# Altium footprint library libreriaPcb.PcbLib: 683 footprints (part 28 of 44)
Each footprint in its own frame and in the unit in brackets; x right, y up, seen from the top. Pads: shape width x height; smd on the part's side, far side on the other; paste and mask are expansions set on the pad; w line width, h text height; cw(c..) or ccw(c..) is an arc to the next point about the centre after c.
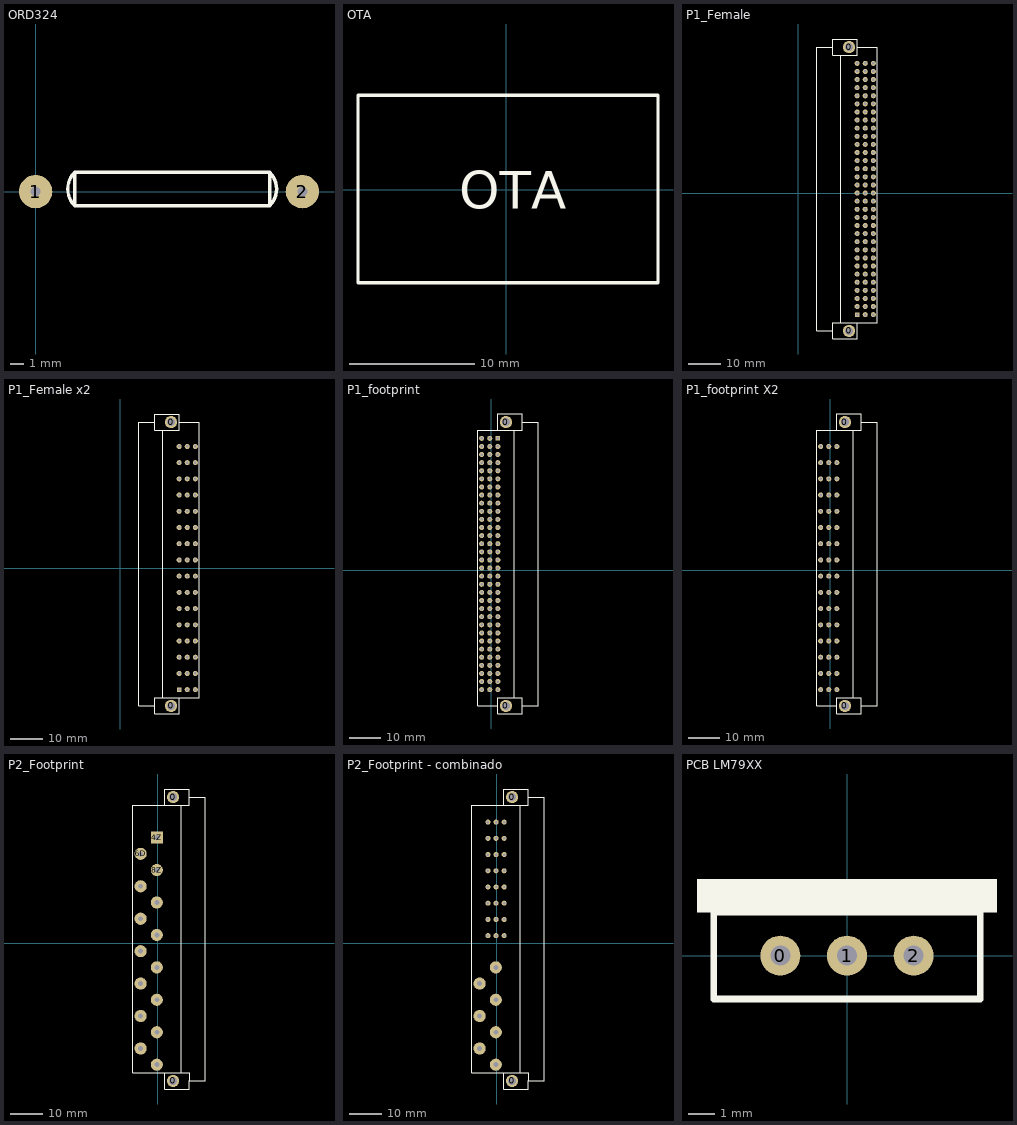
[diagram p27: the footprints below, top view; thin cyan lines are the x and y axes]

## ORD324 [mm] "Reed  Switch"
pads (2):
  round 2.5 hole 0.75: 1(0,0) 2(20,0)
Top Overlay:
  lines w0.254: 2.925,-1.05 cw(c4.175,0.2) 2.925,1.45 ; 2.925,-1.05 17.55,-1.05 ; 2.925,-1.05 2.925,1.45 ; 2.925,1.45 17.55,1.45 ; 17.55,-1.05 ccw(c16.3,0.2) 17.55,1.45 ; 17.55,-1.05 17.55,1.45

## OTA [mm]
Top Overlay:
  lines w0.254: -11.875,-7.45 -11.875,7.55 12.125,7.55 12.125,-7.45 -11.875,-7.45
  text "OTA" at -3.775,-1.55 h3

## P1_Female [mil]
pads (98):
  round 150 hole 100: 0(628.99,-1699.02) 0(628.99,1800.98)
  round 62 hole 30: 1A(728.99,1600.98) 1B(828.99,1600.98) 1C(928.99,1600.98) 2A(728.99,1500.98) 2B(828.99,1500.98) 2C(928.99,1500.98) 3A(728.99,1400.98) 3B(828.99,1400.98) 3C(928.99,1400.98) 4A(728.99,1300.98) 4B(828.99,1300.98) 4C(928.99,1300.98) 5A(728.99,1200.98) 5B(828.99,1200.98) 5C(928.99,1200.98) 6A(728.99,1100.98) 6B(828.99,1100.98) 6C(928.99,1100.98) 7A(728.99,1000.98) 7B(828.99,1000.98) 7C(928.99,1000.98) 8A(728.99,900.98) 8B(828.99,900.98) 8C(928.99,900.98) 9A(728.99,800.98) 9B(828.99,800.98) 9C(928.99,800.98) 10A(728.99,700.98) 10B(828.99,700.98) 10C(928.99,700.98) 11A(728.99,600.98) 11B(828.99,600.98) 11C(928.99,600.98) 12A(728.99,500.98) 12B(828.99,500.98) 12C(928.99,500.98) 13A(728.99,400.98) 13B(828.99,400.98) 13C(928.99,400.98) 14A(728.99,300.98) 14B(828.99,300.98) 14C(928.99,300.98) 15A(728.99,200.98) 15B(828.99,200.98) 15C(928.99,200.98) 16A(728.99,100.98) 16B(828.99,100.98) 16C(928.99,100.98) 17A(728.99,0.98) 17B(828.99,0.98) 17C(928.99,0.98) 18A(728.99,-99.02) 18B(828.99,-99.02) 18C(928.99,-99.02) 19A(728.99,-199.02) 19B(828.99,-199.02) 19C(928.99,-199.02) 20A(728.99,-299.02) 20B(828.99,-299.02) 20C(928.99,-299.02) 21A(728.99,-399.02) 21B(828.99,-399.02) 21C(928.99,-399.02) 22A(728.99,-499.02) 22B(828.99,-499.02) 22C(928.99,-499.02) 23A(728.99,-599.02) 23B(828.99,-599.02) 23C(928.99,-599.02) 24A(728.99,-699.02) 24B(828.99,-699.02) 24C(928.99,-699.02) 25A(728.99,-799.02) 25B(828.99,-799.02) 25C(928.99,-799.02) 26A(728.99,-899.02) 26B(828.99,-899.02) 26C(928.99,-899.02) 27A(728.99,-999.02) 27B(828.99,-999.02) 27C(928.99,-999.02) 28A(728.99,-1099.02) 28B(828.99,-1099.02) 28C(928.99,-1099.02) 29A(728.99,-1199.02) 29B(828.99,-1199.02) 29C(928.99,-1199.02) 30A(728.99,-1299.02) 30B(828.99,-1299.02) 30C(928.99,-1299.02) 31A(728.99,-1399.02) 31B(828.99,-1399.02) 31C(928.99,-1399.02) 32B(828.99,-1499.02) 32C(928.99,-1499.02)
  rect 58x58 hole 30: 32A(728.99,-1499.02)
Top Overlay:
  lines w10: 528.99,-1599.02 528.99,1700.98 ; 728.99,1800.98 978.99,1800.98 978.99,-1599.02 728.99,-1599.02 ; 428.99,-1699.02 228.99,-1699.02 228.99,1800.98 428.99,1800.98 ; 428.99,-1699.02 428.99,-1799.02 728.99,-1799.02 728.99,-1599.02 ; 428.99,-1699.02 428.99,-1599.02 728.99,-1599.02 ; 428.99,1800.98 428.99,1700.98 728.99,1700.98 728.99,1900.98 428.99,1900.98 428.99,1800.98
3D body: height 393.7, standoff 7.87, extent 604.39,-1630.12 643.76,1725.2
3D body: height 393.7, standoff 7.87, extent 228.4,-1699.02 560.09,-1659.65
3D body: height 393.7, standoff 7.87, extent 230.37,1760.63 560.09,1800
3D body: height 433.07, standoff 393.7, extent 230.37,-1699.02 643.76,1800
3D body: height 39.37, standoff 7.87, extent 230.37,-1699.02 643.76,1800
3D body: height 393.7, standoff 7.87, extent 559.11,1711.42 604.39,1760.63
3D body: height 393.7, standoff 7.87, extent 555.17,-1659.65 604.39,-1615.35
3D body: height 334.49, standoff 295.28, extent 259.7,1581.33 928.99,1620.62
3D body: height 334.49, standoff 295.28, extent 259.69,1481.33 928.99,1520.62
3D body: height 334.49, standoff 295.28, extent 259.69,1381.33 928.99,1420.62
3D body: height 334.49, standoff 295.28, extent 259.69,1281.33 928.99,1320.62
3D body: height 334.49, standoff 295.28, extent 259.69,1181.33 928.99,1220.62
3D body: height 334.49, standoff 295.28, extent 259.69,1081.33 928.99,1120.62
3D body: height 334.49, standoff 295.28, extent 259.69,981.33 928.99,1020.62
3D body: height 334.49, standoff 295.28, extent 259.69,881.33 928.99,920.62
3D body: height 334.49, standoff 295.28, extent 259.69,781.33 928.99,820.62
3D body: height 334.49, standoff 295.28, extent 259.69,681.33 928.99,720.62
3D body: height 334.49, standoff 295.28, extent 259.69,581.33 928.99,620.62
3D body: height 334.49, standoff 295.28, extent 259.69,481.33 928.99,520.62
3D body: height 334.49, standoff 295.28, extent 259.69,381.33 928.99,420.62
3D body: height 334.49, standoff 295.28, extent 259.69,281.33 928.99,320.62
3D body: height 334.49, standoff 295.28, extent 259.69,181.33 928.99,220.62
3D body: height 334.49, standoff 295.28, extent 259.69,81.33 928.99,120.62
3D body: height 334.49, standoff 295.28, extent 259.69,-18.67 928.99,20.62
3D body: height 334.49, standoff 295.28, extent 259.69,-118.67 928.99,-79.38
3D body: height 334.49, standoff 295.28, extent 259.69,-218.67 928.99,-179.38
3D body: height 334.49, standoff 295.28, extent 259.69,-318.67 928.99,-279.38
3D body: height 334.49, standoff 295.28, extent 259.69,-418.67 928.99,-379.38
3D body: height 334.49, standoff 295.28, extent 259.69,-518.67 928.99,-479.38
3D body: height 334.49, standoff 295.28, extent 259.69,-618.67 928.99,-579.38
3D body: height 334.49, standoff 295.28, extent 259.69,-718.67 928.99,-679.38
3D body: height 334.49, standoff 295.28, extent 259.69,-818.67 928.99,-779.38
3D body: height 334.49, standoff 295.28, extent 259.69,-918.67 928.99,-879.38
3D body: height 334.49, standoff 295.28, extent 259.69,-1018.67 928.99,-979.38
3D body: height 334.49, standoff 295.28, extent 259.69,-1118.67 928.99,-1079.38
3D body: height 334.49, standoff 295.28, extent 259.69,-1218.67 928.99,-1179.38
3D body: height 334.49, standoff 295.28, extent 259.69,-1318.67 928.99,-1279.38
3D body: height 334.49, standoff 295.28, extent 259.69,-1418.67 928.99,-1379.38
3D body: height 334.49, standoff 295.28, extent 259.69,-1518.67 928.99,-1479.38
3D body: height 177.01, standoff 137.8, extent 256.55,-1518.66 728.99,-1479.37
3D body: height 177.01, standoff 137.8, extent 256.55,-1418.66 728.99,-1379.37
3D body: height 177.01, standoff 137.8, extent 256.55,-1318.66 728.99,-1279.37
3D body: height 177.01, standoff 137.8, extent 256.55,-1218.66 728.99,-1179.37
3D body: height 177.01, standoff 137.8, extent 256.55,-1118.66 728.99,-1079.37
3D body: height 177.01, standoff 137.8, extent 256.55,-1018.66 728.99,-979.37
3D body: height 177.01, standoff 137.8, extent 256.55,-918.66 728.99,-879.37
3D body: height 177.01, standoff 137.8, extent 256.55,-818.66 728.99,-779.37
3D body: height 177.01, standoff 137.8, extent 256.55,-718.66 728.99,-679.37
3D body: height 177.01, standoff 137.8, extent 256.55,-618.66 728.99,-579.37
3D body: height 177.01, standoff 137.8, extent 256.55,-518.66 728.99,-479.37
3D body: height 177.01, standoff 137.8, extent 256.55,-418.66 728.99,-379.37
3D body: height 177.01, standoff 137.8, extent 256.55,-318.66 728.99,-279.37
3D body: height 177.01, standoff 137.8, extent 256.55,-218.66 728.99,-179.37
3D body: height 177.01, standoff 137.8, extent 256.55,-118.66 728.99,-79.37
3D body: height 177.01, standoff 137.8, extent 256.55,-18.66 728.99,20.63
3D body: height 177.01, standoff 137.8, extent 256.55,81.34 728.99,120.63
3D body: height 177.01, standoff 137.8, extent 256.55,181.34 728.99,220.63
3D body: height 177.01, standoff 137.8, extent 256.55,281.34 728.99,320.63
3D body: height 177.01, standoff 137.8, extent 256.55,381.34 728.99,420.63
3D body: height 177.01, standoff 137.8, extent 256.55,481.34 728.99,520.63
3D body: height 177.01, standoff 137.8, extent 256.55,581.34 728.99,620.63
3D body: height 177.01, standoff 137.8, extent 256.55,681.34 728.99,720.63
3D body: height 177.01, standoff 137.8, extent 256.55,781.34 728.99,820.63
3D body: height 177.01, standoff 137.8, extent 256.55,881.34 728.99,920.63
3D body: height 177.01, standoff 137.8, extent 256.55,981.34 728.99,1020.63
3D body: height 177.01, standoff 137.8, extent 256.55,1081.34 728.99,1120.63
3D body: height 177.01, standoff 137.8, extent 256.55,1181.34 728.99,1220.63
3D body: height 177.01, standoff 137.8, extent 256.55,1281.34 728.99,1320.63
3D body: height 177.01, standoff 137.8, extent 256.55,1381.34 728.99,1420.63
3D body: height 177.01, standoff 137.8, extent 256.55,1481.34 728.99,1520.63
3D body: height 177.01, standoff 137.8, extent 256.55,1581.34 728.99,1620.63
3D body: height 177.17, standoff -39.37, extent 709.3,1581.33 748.51,1620.62
3D body: height 177.17, standoff -39.37, extent 709.29,1481.33 748.51,1520.62
3D body: height 177.17, standoff -39.37, extent 709.29,1381.33 748.51,1420.62
3D body: height 177.17, standoff -39.37, extent 709.29,1281.33 748.51,1320.62
3D body: height 177.17, standoff -39.37, extent 709.3,1181.33 748.51,1220.62
3D body: height 177.17, standoff -39.37, extent 709.3,1081.33 748.51,1120.62
3D body: height 177.17, standoff -39.37, extent 709.3,981.33 748.51,1020.62
3D body: height 177.17, standoff -39.37, extent 709.3,881.33 748.51,920.62
3D body: height 177.17, standoff -39.37, extent 709.29,781.33 748.51,820.62
3D body: height 177.17, standoff -39.37, extent 709.29,681.33 748.51,720.62
3D body: height 177.17, standoff -39.37, extent 709.29,581.33 748.51,620.62
3D body: height 177.17, standoff -39.37, extent 709.29,481.33 748.51,520.62
3D body: height 177.17, standoff -39.37, extent 709.3,381.33 748.51,420.62
3D body: height 177.17, standoff -39.37, extent 709.3,281.33 748.51,320.62
3D body: height 177.17, standoff -39.37, extent 709.29,181.33 748.51,220.62
3D body: height 177.17, standoff -39.37, extent 709.29,81.33 748.51,120.62
3D body: height 177.17, standoff -39.37, extent 709.29,-18.67 748.51,20.62
3D body: height 177.17, standoff -39.37, extent 709.3,-118.67 748.51,-79.38
3D body: height 177.17, standoff -39.37, extent 709.3,-218.67 748.51,-179.38
3D body: height 177.17, standoff -39.37, extent 709.3,-318.67 748.51,-279.38
3D body: height 177.17, standoff -39.37, extent 709.29,-418.67 748.51,-379.38
3D body: height 177.17, standoff -39.37, extent 709.29,-518.67 748.51,-479.38
3D body: height 177.17, standoff -39.37, extent 709.3,-618.67 748.51,-579.38
3D body: height 177.17, standoff -39.37, extent 709.29,-718.67 748.51,-679.38
3D body: height 177.17, standoff -39.37, extent 709.3,-818.67 748.51,-779.38
3D body: height 177.17, standoff -39.37, extent 709.3,-918.67 748.51,-879.38
3D body: height 177.17, standoff -39.37, extent 709.29,-1018.67 748.51,-979.38
3D body: height 177.17, standoff -39.37, extent 709.3,-1118.67 748.51,-1079.38
3D body: height 177.17, standoff -39.37, extent 709.3,-1218.67 748.51,-1179.38
3D body: height 177.17, standoff -39.37, extent 709.29,-1318.67 748.51,-1279.38
3D body: height 177.17, standoff -39.37, extent 709.3,-1418.67 748.51,-1379.38
3D body: height 177.17, standoff -39.37, extent 709.3,-1518.67 748.51,-1479.38
3D body: height 334.65, standoff -39.37, extent 909.29,-1518.67 948.51,-1479.38
3D body: height 334.65, standoff -39.37, extent 909.29,-1418.67 948.51,-1379.38
3D body: height 334.65, standoff -39.37, extent 909.29,-1318.68 948.5,-1279.39
3D body: height 334.65, standoff -39.37, extent 909.29,-1318.67 948.51,-1279.38
3D body: height 334.65, standoff -39.37, extent 909.29,-1218.68 948.5,-1179.39
3D body: height 334.65, standoff -39.37, extent 909.29,-1118.67 948.51,-1079.38
3D body: height 334.65, standoff -39.37, extent 909.29,-1018.68 948.5,-979.39
3D body: height 334.65, standoff -39.37, extent 909.29,-918.67 948.51,-879.38
3D body: height 334.65, standoff -39.37, extent 909.29,-818.68 948.5,-779.39
3D body: height 334.65, standoff -39.37, extent 909.29,-718.68 948.5,-679.39
3D body: height 334.65, standoff -39.37, extent 909.29,-618.68 948.5,-579.39
3D body: height 334.65, standoff -39.37, extent 909.29,-518.67 948.51,-479.38
3D body: height 334.65, standoff -39.37, extent 909.29,-418.68 948.5,-379.39
3D body: height 334.65, standoff -39.37, extent 909.29,-318.67 948.51,-279.38
3D body: height 334.65, standoff -39.37, extent 909.29,-218.68 948.5,-179.39
3D body: height 334.65, standoff -39.37, extent 909.29,-118.68 948.5,-79.39
3D body: height 334.65, standoff -39.37, extent 909.29,-18.68 948.5,20.61
3D body: height 334.65, standoff -39.37, extent 909.29,81.33 948.51,120.62
3D body: height 334.65, standoff -39.37, extent 909.29,181.33 948.51,220.62
3D body: height 334.65, standoff -39.37, extent 909.29,281.33 948.51,320.62
3D body: height 334.65, standoff -39.37, extent 909.29,381.33 948.51,420.62
3D body: height 334.65, standoff -39.37, extent 909.29,481.32 948.5,520.61
3D body: height 334.65, standoff -39.37, extent 909.29,581.33 948.51,620.62
3D body: height 334.65, standoff -39.37, extent 909.29,681.33 948.51,720.62
3D body: height 334.65, standoff -39.37, extent 909.29,781.33 948.51,820.62
3D body: height 334.65, standoff -39.37, extent 909.29,881.33 948.51,920.62
3D body: height 334.65, standoff -39.37, extent 909.29,981.33 948.51,1020.62
3D body: height 334.65, standoff -39.37, extent 909.29,1081.33 948.51,1120.62
3D body: height 334.65, standoff -39.37, extent 909.29,1181.32 948.5,1220.61
3D body: height 334.65, standoff -39.37, extent 909.29,1281.33 948.51,1320.62
3D body: height 334.65, standoff -39.37, extent 909.29,1381.33 948.51,1420.62
3D body: height 334.65, standoff -39.37, extent 909.29,1481.33 948.51,1520.62
3D body: height 334.65, standoff -39.37, extent 909.3,1581.33 948.51,1620.62

## P1_Female x2 [mil]
pads (50):
  round 150 hole 100: 0(628.99,-1699.02) 0(628.99,1800.98)
  round 62 hole 30: 2A(728.99,1500.98) 2B(828.99,1500.98) 2C(928.99,1500.98) 4A(728.99,1300.98) 4B(828.99,1300.98) 4C(928.99,1300.98) 6A(728.99,1100.98) 6B(828.99,1100.98) 6C(928.99,1100.98) 8A(728.99,900.98) 8B(828.99,900.98) 8C(928.99,900.98) 10A(728.99,700.98) 10B(828.99,700.98) 10C(928.99,700.98) 12A(728.99,500.98) 12B(828.99,500.98) 12C(928.99,500.98) 14A(728.99,300.98) 14B(828.99,300.98) 14C(928.99,300.98) 16A(728.99,100.98) 16B(828.99,100.98) 16C(928.99,100.98) 18A(728.99,-99.02) 18B(828.99,-99.02) 18C(928.99,-99.02) 20A(728.99,-299.02) 20B(828.99,-299.02) 20C(928.99,-299.02) 22A(728.99,-499.02) 22B(828.99,-499.02) 22C(928.99,-499.02) 24A(728.99,-699.02) 24B(828.99,-699.02) 24C(928.99,-699.02) 26A(728.99,-899.02) 26B(828.99,-899.02) 26C(928.99,-899.02) 28A(728.99,-1099.02) 28B(828.99,-1099.02) 28C(928.99,-1099.02) 30A(728.99,-1299.02) 30B(828.99,-1299.02) 30C(928.99,-1299.02) 32B(828.99,-1499.02) 32C(928.99,-1499.02)
  rect 58x58 hole 30: 32A(728.99,-1499.02)
Top Overlay:
  lines w10: 528.99,-1599.02 528.99,1700.98 ; 728.99,1800.98 978.99,1800.98 978.99,-1599.02 728.99,-1599.02 ; 428.99,-1699.02 428.99,-1599.02 728.99,-1599.02 ; 428.99,-1699.02 428.99,-1799.02 728.99,-1799.02 728.99,-1599.02 ; 428.99,-1699.02 228.99,-1699.02 228.99,1800.98 428.99,1800.98 ; 428.99,1800.98 428.99,1900.98 728.99,1900.98 728.99,1700.98 428.99,1700.98 428.99,1800.98
3D body: height 393.7, standoff 7.87, extent 555.17,-1659.65 604.39,-1615.35
3D body: height 393.7, standoff 7.87, extent 559.11,1711.42 604.39,1760.63
3D body: height 39.37, standoff 7.87, extent 230.37,-1699.02 643.76,1800
3D body: height 433.07, standoff 393.7, extent 230.37,-1699.02 643.76,1800
3D body: height 393.7, standoff 7.87, extent 230.37,1760.63 560.09,1800
3D body: height 393.7, standoff 7.87, extent 228.4,-1699.02 560.09,-1659.65
3D body: height 393.7, standoff 7.87, extent 604.39,-1630.12 643.76,1725.2
3D body: height 334.65, standoff -39.37, extent 909.29,1481.33 948.51,1520.62
3D body: height 334.65, standoff -39.37, extent 909.29,1281.33 948.51,1320.62
3D body: height 334.65, standoff -39.37, extent 909.29,1081.33 948.51,1120.62
3D body: height 334.65, standoff -39.37, extent 909.29,881.33 948.51,920.62
3D body: height 334.65, standoff -39.37, extent 909.29,681.33 948.51,720.62
3D body: height 334.65, standoff -39.37, extent 909.29,481.32 948.5,520.61
3D body: height 334.65, standoff -39.37, extent 909.29,281.33 948.51,320.62
3D body: height 334.65, standoff -39.37, extent 909.29,81.33 948.51,120.62
3D body: height 334.65, standoff -39.37, extent 909.29,-118.68 948.5,-79.39
3D body: height 334.65, standoff -39.37, extent 909.29,-318.67 948.51,-279.38
3D body: height 334.65, standoff -39.37, extent 909.29,-518.67 948.51,-479.38
3D body: height 334.65, standoff -39.37, extent 909.29,-718.68 948.5,-679.39
3D body: height 334.65, standoff -39.37, extent 909.29,-918.67 948.51,-879.38
3D body: height 334.65, standoff -39.37, extent 909.29,-1118.67 948.51,-1079.38
3D body: height 334.65, standoff -39.37, extent 909.29,-1318.67 948.51,-1279.38
3D body: height 334.65, standoff -39.37, extent 909.29,-1318.68 948.5,-1279.39
3D body: height 334.65, standoff -39.37, extent 909.29,-1518.67 948.51,-1479.38
3D body: height 177.17, standoff -39.37, extent 709.3,-1518.67 748.51,-1479.38
3D body: height 177.17, standoff -39.37, extent 709.29,-1318.67 748.51,-1279.38
3D body: height 177.17, standoff -39.37, extent 709.3,-1118.67 748.51,-1079.38
3D body: height 177.17, standoff -39.37, extent 709.3,-918.67 748.51,-879.38
3D body: height 177.17, standoff -39.37, extent 709.29,-718.67 748.51,-679.38
3D body: height 177.17, standoff -39.37, extent 709.29,-518.67 748.51,-479.38
3D body: height 177.17, standoff -39.37, extent 709.3,-318.67 748.51,-279.38
3D body: height 177.17, standoff -39.37, extent 709.3,-118.67 748.51,-79.38
3D body: height 177.17, standoff -39.37, extent 709.29,81.33 748.51,120.62
3D body: height 177.17, standoff -39.37, extent 709.3,281.33 748.51,320.62
3D body: height 177.17, standoff -39.37, extent 709.29,481.33 748.51,520.62
3D body: height 177.17, standoff -39.37, extent 709.29,681.33 748.51,720.62
3D body: height 177.17, standoff -39.37, extent 709.3,881.33 748.51,920.62
3D body: height 177.17, standoff -39.37, extent 709.3,1081.33 748.51,1120.62
3D body: height 177.17, standoff -39.37, extent 709.29,1281.33 748.51,1320.62
3D body: height 177.17, standoff -39.37, extent 709.29,1481.33 748.51,1520.62
3D body: height 177.01, standoff 137.8, extent 256.55,1481.34 728.99,1520.63
3D body: height 177.01, standoff 137.8, extent 256.55,1281.34 728.99,1320.63
3D body: height 177.01, standoff 137.8, extent 256.55,1081.34 728.99,1120.63
3D body: height 177.01, standoff 137.8, extent 256.55,881.34 728.99,920.63
3D body: height 177.01, standoff 137.8, extent 256.55,681.34 728.99,720.63
3D body: height 177.01, standoff 137.8, extent 256.55,481.34 728.99,520.63
3D body: height 177.01, standoff 137.8, extent 256.55,281.34 728.99,320.63
3D body: height 177.01, standoff 137.8, extent 256.55,81.34 728.99,120.63
3D body: height 177.01, standoff 137.8, extent 256.55,-118.66 728.99,-79.37
3D body: height 177.01, standoff 137.8, extent 256.55,-318.66 728.99,-279.37
3D body: height 177.01, standoff 137.8, extent 256.55,-518.66 728.99,-479.37
3D body: height 177.01, standoff 137.8, extent 256.55,-718.66 728.99,-679.37
3D body: height 177.01, standoff 137.8, extent 256.55,-918.66 728.99,-879.37
3D body: height 177.01, standoff 137.8, extent 256.55,-1118.66 728.99,-1079.37
3D body: height 177.01, standoff 137.8, extent 256.55,-1318.66 728.99,-1279.37
3D body: height 177.01, standoff 137.8, extent 256.55,-1518.66 728.99,-1479.37
3D body: height 334.49, standoff 295.28, extent 259.69,-1518.67 928.99,-1479.38
3D body: height 334.49, standoff 295.28, extent 259.69,-1318.67 928.99,-1279.38
3D body: height 334.49, standoff 295.28, extent 259.69,-1118.67 928.99,-1079.38
3D body: height 334.49, standoff 295.28, extent 259.69,-918.67 928.99,-879.38
3D body: height 334.49, standoff 295.28, extent 259.69,-718.67 928.99,-679.38
3D body: height 334.49, standoff 295.28, extent 259.69,-518.67 928.99,-479.38
3D body: height 334.49, standoff 295.28, extent 259.69,-318.67 928.99,-279.38
3D body: height 334.49, standoff 295.28, extent 259.69,-118.67 928.99,-79.38
3D body: height 334.49, standoff 295.28, extent 259.69,81.33 928.99,120.62
3D body: height 334.49, standoff 295.28, extent 259.69,281.33 928.99,320.62
3D body: height 334.49, standoff 295.28, extent 259.69,481.33 928.99,520.62
3D body: height 334.49, standoff 295.28, extent 259.69,681.33 928.99,720.62
3D body: height 334.49, standoff 295.28, extent 259.69,881.33 928.99,920.62
3D body: height 334.49, standoff 295.28, extent 259.69,1081.33 928.99,1120.62
3D body: height 334.49, standoff 295.28, extent 259.69,1281.33 928.99,1320.62
3D body: height 334.49, standoff 295.28, extent 259.69,1481.33 928.99,1520.62

## P1_footprint [mil]
pads (98):
  round 150 hole 100: 0(184,-1675) 0(184,1825)
  rect 58x58 hole 30: 1A(84,1625)
  round 62 hole 30: 1B(-16,1625) 1C(-116,1625) 2A(84,1525) 2B(-16,1525) 2C(-116,1525) 3A(84,1425) 3B(-16,1425) 3C(-116,1425) 4A(84,1325) 4B(-16,1325) 4C(-116,1325) 5A(84,1225) 5B(-16,1225) 5C(-116,1225) 6A(84,1125) 6B(-16,1125) 6C(-116,1125) 7A(84,1025) 7B(-16,1025) 7C(-116,1025) 8A(84,925) 8B(-16,925) 8C(-116,925) 9A(84,825) 9B(-16,825) 9C(-116,825) 10A(84,725) 10B(-16,725) 10C(-116,725) 11A(84,625) 11B(-16,625) 11C(-116,625) 12A(84,525) 12B(-16,525) 12C(-116,525) 13A(84,425) 13B(-16,425) 13C(-116,425) 14A(84,325) 14B(-16,325) 14C(-116,325) 15A(84,225) 15B(-16,225) 15C(-116,225) 16A(84,125) 16B(-16,125) 16C(-116,125) 17A(84,25) 17B(-16,25) 17C(-116,25) 18A(84,-75) 18B(-16,-75) 18C(-116,-75) 19A(84,-175) 19B(-16,-175) 19C(-116,-175) 20A(84,-275) 20B(-16,-275) 20C(-116,-275) 21A(84,-375) 21B(-16,-375) 21C(-116,-375) 22A(84,-475) 22B(-16,-475) 22C(-116,-475) 23A(84,-575) 23B(-16,-575) 23C(-116,-575) 24A(84,-675) 24B(-16,-675) 24C(-116,-675) 25A(84,-775) 25B(-16,-775) 25C(-116,-775) 26A(84,-875) 26B(-16,-875) 26C(-116,-875) 27A(84,-975) 27B(-16,-975) 27C(-116,-975) 28A(84,-1075) 28B(-16,-1075) 28C(-116,-1075) 29A(84,-1175) 29B(-16,-1175) 29C(-116,-1175) 30A(84,-1275) 30B(-16,-1275) 30C(-116,-1275) 31A(84,-1375) 31B(-16,-1375) 31C(-116,-1375) 32A(84,-1475) 32B(-16,-1475) 32C(-116,-1475)
Top Overlay:
  lines w10: 84,-1675 -166,-1675 -166,1725 84,1725 ; 284,-1575 284,1725 ; 84,1725 384,1725 384,1825 ; 84,1725 84,1925 384,1925 384,1825 ; 384,-1675 384,-1775 84,-1775 84,-1575 384,-1575 384,-1675 ; 384,-1675 584,-1675 584,1825 384,1825
3D body: height 393.7, standoff 7.87, extent 208.61,1741.34 257.82,1785.63
3D body: height 393.7, standoff 7.87, extent 208.61,-1634.65 253.88,-1585.43
3D body: height 39.37, standoff 7.87, extent 169.24,-1674.02 582.62,1825
3D body: height 433.07, standoff 393.7, extent 169.24,-1674.02 582.62,1825
3D body: height 393.7, standoff 7.87, extent 252.9,-1674.02 582.62,-1634.65
3D body: height 393.7, standoff 7.87, extent 252.9,1785.63 584.59,1825
3D body: height 393.7, standoff 7.87, extent 169.24,-1599.21 208.61,1756.1
3D body: height 334.65, standoff -39.37, extent -135.52,-1494.63 -96.3,-1455.34
3D body: height 334.65, standoff -39.37, extent -135.52,-1394.63 -96.3,-1355.34
3D body: height 334.65, standoff -39.37, extent -135.51,-1294.63 -96.3,-1255.34
3D body: height 334.65, standoff -39.37, extent -135.51,-1194.63 -96.3,-1155.34
3D body: height 334.65, standoff -39.37, extent -135.51,-1094.63 -96.3,-1055.34
3D body: height 334.65, standoff -39.37, extent -135.52,-994.63 -96.3,-955.34
3D body: height 334.65, standoff -39.37, extent -135.52,-894.63 -96.3,-855.34
3D body: height 334.65, standoff -39.37, extent -135.52,-794.63 -96.3,-755.34
3D body: height 334.65, standoff -39.37, extent -135.52,-694.63 -96.3,-655.34
3D body: height 334.65, standoff -39.37, extent -135.52,-594.63 -96.3,-555.34
3D body: height 334.65, standoff -39.37, extent -135.52,-494.63 -96.3,-455.34
3D body: height 334.65, standoff -39.37, extent -135.51,-394.63 -96.3,-355.34
3D body: height 334.65, standoff -39.37, extent -135.52,-294.63 -96.3,-255.34
3D body: height 334.65, standoff -39.37, extent -135.52,-194.63 -96.3,-155.34
3D body: height 334.65, standoff -39.37, extent -135.52,-94.63 -96.3,-55.34
3D body: height 334.65, standoff -39.37, extent -135.52,5.37 -96.3,44.66
3D body: height 334.65, standoff -39.37, extent -135.51,105.37 -96.3,144.66
3D body: height 334.65, standoff -39.37, extent -135.51,205.37 -96.3,244.66
3D body: height 334.65, standoff -39.37, extent -135.51,305.37 -96.3,344.66
3D body: height 334.65, standoff -39.37, extent -135.52,405.37 -96.3,444.66
3D body: height 334.65, standoff -39.37, extent -135.51,505.37 -96.3,544.66
3D body: height 334.65, standoff -39.37, extent -135.52,605.37 -96.3,644.66
3D body: height 334.65, standoff -39.37, extent -135.51,705.37 -96.3,744.66
3D body: height 334.65, standoff -39.37, extent -135.51,805.37 -96.3,844.66
3D body: height 334.65, standoff -39.37, extent -135.51,905.37 -96.3,944.66
3D body: height 334.65, standoff -39.37, extent -135.52,1005.37 -96.3,1044.66
3D body: height 334.65, standoff -39.37, extent -135.51,1105.37 -96.3,1144.66
3D body: height 334.65, standoff -39.37, extent -135.51,1205.37 -96.3,1244.66
3D body: height 334.65, standoff -39.37, extent -135.51,1305.37 -96.3,1344.66
3D body: height 334.65, standoff -39.37, extent -135.52,1405.37 -96.3,1444.66
3D body: height 334.65, standoff -39.37, extent -135.51,1405.37 -96.3,1444.66
3D body: height 334.65, standoff -39.37, extent -135.52,1505.37 -96.3,1544.66
3D body: height 334.65, standoff -39.37, extent -135.52,1605.37 -96.3,1644.66
3D body: height 177.17, standoff -39.37, extent 64.48,1605.36 103.69,1644.65
3D body: height 177.17, standoff -39.37, extent 64.48,1505.36 103.69,1544.65
3D body: height 177.17, standoff -39.37, extent 64.48,1405.37 103.7,1444.66
3D body: height 177.17, standoff -39.37, extent 64.48,1305.36 103.69,1344.65
3D body: height 177.17, standoff -39.37, extent 64.48,1205.36 103.69,1244.65
3D body: height 177.17, standoff -39.37, extent 64.48,1105.37 103.7,1144.66
3D body: height 177.17, standoff -39.37, extent 64.48,1005.36 103.69,1044.65
3D body: height 177.17, standoff -39.37, extent 64.48,905.36 103.69,944.65
3D body: height 177.17, standoff -39.37, extent 64.48,805.37 103.7,844.66
3D body: height 177.17, standoff -39.37, extent 64.48,705.36 103.69,744.65
3D body: height 177.17, standoff -39.37, extent 64.48,605.37 103.7,644.66
3D body: height 177.17, standoff -39.37, extent 64.48,505.37 103.7,544.66
3D body: height 177.17, standoff -39.37, extent 64.48,405.36 103.69,444.65
3D body: height 177.17, standoff -39.37, extent 64.48,305.36 103.69,344.65
3D body: height 177.17, standoff -39.37, extent 64.48,205.36 103.69,244.65
3D body: height 177.17, standoff -39.37, extent 64.48,105.37 103.7,144.66
3D body: height 177.17, standoff -39.37, extent 64.48,5.37 103.7,44.66
3D body: height 177.17, standoff -39.37, extent 64.48,-94.63 103.7,-55.34
3D body: height 177.17, standoff -39.37, extent 64.48,-194.64 103.69,-155.35
3D body: height 177.17, standoff -39.37, extent 64.48,-294.64 103.69,-255.35
3D body: height 177.17, standoff -39.37, extent 64.48,-394.63 103.7,-355.34
3D body: height 177.17, standoff -39.37, extent 64.48,-494.63 103.7,-455.34
3D body: height 177.17, standoff -39.37, extent 64.48,-594.63 103.7,-555.34
3D body: height 177.17, standoff -39.37, extent 64.48,-694.63 103.7,-655.34
3D body: height 177.17, standoff -39.37, extent 64.48,-794.64 103.69,-755.35
3D body: height 177.17, standoff -39.37, extent 64.48,-894.64 103.69,-855.35
3D body: height 177.17, standoff -39.37, extent 64.48,-994.64 103.69,-955.35
3D body: height 177.17, standoff -39.37, extent 64.48,-1094.64 103.69,-1055.35
3D body: height 177.17, standoff -39.37, extent 64.48,-1194.63 103.7,-1155.34
3D body: height 177.17, standoff -39.37, extent 64.48,-1294.63 103.7,-1255.34
3D body: height 177.17, standoff -39.37, extent 64.48,-1394.63 103.7,-1355.34
3D body: height 177.17, standoff -39.37, extent 64.48,-1494.64 103.69,-1455.35
3D body: height 177.01, standoff 137.8, extent 84,-1494.64 556.44,-1455.36
3D body: height 177.01, standoff 137.8, extent 84,-1394.64 556.44,-1355.36
3D body: height 177.01, standoff 137.8, extent 84,-1294.64 556.44,-1255.36
3D body: height 177.01, standoff 137.8, extent 84,-1194.64 556.44,-1155.36
3D body: height 177.01, standoff 137.8, extent 84,-1094.64 556.44,-1055.36
3D body: height 177.01, standoff 137.8, extent 84,-994.64 556.44,-955.36
3D body: height 177.01, standoff 137.8, extent 84,-894.64 556.44,-855.36
3D body: height 177.01, standoff 137.8, extent 84,-794.64 556.44,-755.36
3D body: height 177.01, standoff 137.8, extent 84,-694.64 556.44,-655.36
3D body: height 177.01, standoff 137.8, extent 84,-594.64 556.44,-555.36
3D body: height 177.01, standoff 137.8, extent 84,-494.64 556.44,-455.36
3D body: height 177.01, standoff 137.8, extent 84,-394.64 556.44,-355.36
3D body: height 177.01, standoff 137.8, extent 84,-294.64 556.44,-255.36
3D body: height 177.01, standoff 137.8, extent 84,-194.64 556.44,-155.36
3D body: height 177.01, standoff 137.8, extent 84,-94.64 556.44,-55.36
3D body: height 177.01, standoff 137.8, extent 84,5.36 556.44,44.64
3D body: height 177.01, standoff 137.8, extent 84,105.36 556.44,144.64
3D body: height 177.01, standoff 137.8, extent 84,205.36 556.44,244.64
3D body: height 177.01, standoff 137.8, extent 84,305.36 556.44,344.64
3D body: height 177.01, standoff 137.8, extent 84,405.36 556.44,444.64
3D body: height 177.01, standoff 137.8, extent 84,505.36 556.44,544.64
3D body: height 177.01, standoff 137.8, extent 84,605.36 556.44,644.64
3D body: height 177.01, standoff 137.8, extent 84,705.36 556.44,744.64
3D body: height 177.01, standoff 137.8, extent 84,805.36 556.44,844.64
3D body: height 177.01, standoff 137.8, extent 84,905.36 556.44,944.64
3D body: height 177.01, standoff 137.8, extent 84,1005.36 556.44,1044.64
3D body: height 177.01, standoff 137.8, extent 84,1105.36 556.44,1144.64
3D body: height 177.01, standoff 137.8, extent 84,1205.36 556.44,1244.64
3D body: height 177.01, standoff 137.8, extent 84,1305.36 556.44,1344.64
3D body: height 177.01, standoff 137.8, extent 84,1405.36 556.44,1444.64
3D body: height 177.01, standoff 137.8, extent 84,1505.36 556.44,1544.64
3D body: height 177.01, standoff 137.8, extent 84,1605.36 556.44,1644.64
3D body: height 334.49, standoff 295.28, extent -115.99,1605.36 553.3,1644.65
3D body: height 334.49, standoff 295.28, extent -115.99,1505.36 553.3,1544.65
3D body: height 334.49, standoff 295.28, extent -115.99,1405.36 553.3,1444.65
3D body: height 334.49, standoff 295.28, extent -115.99,1305.36 553.3,1344.65
3D body: height 334.49, standoff 295.28, extent -115.99,1205.36 553.3,1244.65
3D body: height 334.49, standoff 295.28, extent -115.99,1105.36 553.3,1144.65
3D body: height 334.49, standoff 295.28, extent -115.99,1005.36 553.3,1044.65
3D body: height 334.49, standoff 295.28, extent -115.99,905.36 553.3,944.65
3D body: height 334.49, standoff 295.28, extent -115.99,805.36 553.3,844.65
3D body: height 334.49, standoff 295.28, extent -115.99,705.36 553.3,744.65
3D body: height 334.49, standoff 295.28, extent -115.99,605.36 553.3,644.65
3D body: height 334.49, standoff 295.28, extent -115.99,505.36 553.3,544.65
3D body: height 334.49, standoff 295.28, extent -115.99,405.36 553.3,444.65
3D body: height 334.49, standoff 295.28, extent -115.99,305.36 553.3,344.65
3D body: height 334.49, standoff 295.28, extent -115.99,205.36 553.3,244.65
3D body: height 334.49, standoff 295.28, extent -115.99,105.36 553.3,144.65
3D body: height 334.49, standoff 295.28, extent -115.99,5.36 553.3,44.65
3D body: height 334.49, standoff 295.28, extent -115.99,-94.64 553.3,-55.35
3D body: height 334.49, standoff 295.28, extent -115.99,-194.64 553.3,-155.35
3D body: height 334.49, standoff 295.28, extent -115.99,-294.64 553.3,-255.35
3D body: height 334.49, standoff 295.28, extent -115.99,-394.64 553.3,-355.35
3D body: height 334.49, standoff 295.28, extent -115.99,-494.64 553.3,-455.35
3D body: height 334.49, standoff 295.28, extent -115.99,-594.64 553.3,-555.35
3D body: height 334.49, standoff 295.28, extent -115.99,-694.64 553.3,-655.35
3D body: height 334.49, standoff 295.28, extent -115.99,-794.64 553.3,-755.35
3D body: height 334.49, standoff 295.28, extent -115.99,-894.64 553.3,-855.35
3D body: height 334.49, standoff 295.28, extent -115.99,-994.64 553.3,-955.35
3D body: height 334.49, standoff 295.28, extent -115.99,-1094.64 553.3,-1055.35
3D body: height 334.49, standoff 295.28, extent -115.99,-1194.64 553.3,-1155.35
3D body: height 334.49, standoff 295.28, extent -115.99,-1294.64 553.3,-1255.35
3D body: height 334.49, standoff 295.28, extent -115.99,-1394.64 553.3,-1355.35
3D body: height 334.49, standoff 295.28, extent -116,-1494.64 553.3,-1455.35

## P1_footprint X2 [mil]
pads (50):
  round 150 hole 100: 0(184,-1675) 0(184,1825)
  round 62 hole 30: 2A(84,1525) 2B(-16,1525) 2C(-116,1525) 4A(84,1325) 4B(-16,1325) 4C(-116,1325) 6A(84,1125) 6B(-16,1125) 6C(-116,1125) 8A(84,925) 8B(-16,925) 8C(-116,925) 10A(84,725) 10B(-16,725) 10C(-116,725) 12A(84,525) 12B(-16,525) 12C(-116,525) 14A(84,325) 14B(-16,325) 14C(-116,325) 16A(84,125) 16B(-16,125) 16C(-116,125) 18A(84,-75) 18B(-16,-75) 18C(-116,-75) 20A(84,-275) 20B(-16,-275) 20C(-116,-275) 22A(84,-475) 22B(-16,-475) 22C(-116,-475) 24A(84,-675) 24B(-16,-675) 24C(-116,-675) 26A(84,-875) 26B(-16,-875) 26C(-116,-875) 28A(84,-1075) 28B(-16,-1075) 28C(-116,-1075) 30A(84,-1275) 30B(-16,-1275) 30C(-116,-1275) 32A(84,-1475) 32B(-16,-1475) 32C(-116,-1475)
Top Overlay:
  lines w10: 84,-1675 -166,-1675 -166,1725 84,1725 ; 284,-1575 284,1725 ; 84,1725 384,1725 384,1825 ; 84,1725 84,1925 384,1925 384,1825 ; 384,-1675 384,-1775 84,-1775 84,-1575 384,-1575 384,-1675 ; 384,-1675 584,-1675 584,1825 384,1825
3D body: height 393.7, standoff 7.87, extent 208.61,1741.34 257.82,1785.63
3D body: height 393.7, standoff 7.87, extent 208.61,-1634.65 253.88,-1585.43
3D body: height 39.37, standoff 7.87, extent 169.24,-1674.02 582.62,1825
3D body: height 433.07, standoff 393.7, extent 169.24,-1674.02 582.62,1825
3D body: height 393.7, standoff 7.87, extent 252.9,-1674.02 582.62,-1634.65
3D body: height 393.7, standoff 7.87, extent 252.9,1785.63 584.59,1825
3D body: height 393.7, standoff 7.87, extent 169.24,-1599.21 208.61,1756.1
3D body: height 334.65, standoff -39.37, extent -135.52,-1494.63 -96.3,-1455.34
3D body: height 334.65, standoff -39.37, extent -135.51,-1294.63 -96.3,-1255.34
3D body: height 334.65, standoff -39.37, extent -135.51,-1094.63 -96.3,-1055.34
3D body: height 334.65, standoff -39.37, extent -135.52,-894.63 -96.3,-855.34
3D body: height 334.65, standoff -39.37, extent -135.52,-694.63 -96.3,-655.34
3D body: height 334.65, standoff -39.37, extent -135.52,-494.63 -96.3,-455.34
3D body: height 334.65, standoff -39.37, extent -135.52,-294.63 -96.3,-255.34
3D body: height 334.65, standoff -39.37, extent -135.52,-94.63 -96.3,-55.34
3D body: height 334.65, standoff -39.37, extent -135.51,105.37 -96.3,144.66
3D body: height 334.65, standoff -39.37, extent -135.51,305.37 -96.3,344.66
3D body: height 334.65, standoff -39.37, extent -135.51,505.37 -96.3,544.66
3D body: height 334.65, standoff -39.37, extent -135.51,705.37 -96.3,744.66
3D body: height 334.65, standoff -39.37, extent -135.51,905.37 -96.3,944.66
3D body: height 334.65, standoff -39.37, extent -135.51,1105.37 -96.3,1144.66
3D body: height 334.65, standoff -39.37, extent -135.51,1305.37 -96.3,1344.66
3D body: height 334.65, standoff -39.37, extent -135.52,1505.37 -96.3,1544.66
3D body: height 177.17, standoff -39.37, extent 64.48,1505.36 103.69,1544.65
3D body: height 177.17, standoff -39.37, extent 64.48,1305.36 103.69,1344.65
3D body: height 177.17, standoff -39.37, extent 64.48,1105.37 103.7,1144.66
3D body: height 177.17, standoff -39.37, extent 64.48,905.36 103.69,944.65
3D body: height 177.17, standoff -39.37, extent 64.48,705.36 103.69,744.65
3D body: height 177.17, standoff -39.37, extent 64.48,505.37 103.7,544.66
3D body: height 177.17, standoff -39.37, extent 64.48,305.36 103.69,344.65
3D body: height 177.17, standoff -39.37, extent 64.48,105.37 103.7,144.66
3D body: height 177.17, standoff -39.37, extent 64.48,-94.63 103.7,-55.34
3D body: height 177.17, standoff -39.37, extent 64.48,-294.64 103.69,-255.35
3D body: height 177.17, standoff -39.37, extent 64.48,-494.63 103.7,-455.34
3D body: height 177.17, standoff -39.37, extent 64.48,-694.63 103.7,-655.34
3D body: height 177.17, standoff -39.37, extent 64.48,-894.64 103.69,-855.35
3D body: height 177.17, standoff -39.37, extent 64.48,-1094.64 103.69,-1055.35
3D body: height 177.17, standoff -39.37, extent 64.48,-1294.63 103.7,-1255.34
3D body: height 177.17, standoff -39.37, extent 64.48,-1494.64 103.69,-1455.35
3D body: height 177.01, standoff 137.8, extent 84,-1494.64 556.44,-1455.36
3D body: height 177.01, standoff 137.8, extent 84,-1294.64 556.44,-1255.36
3D body: height 177.01, standoff 137.8, extent 84,-1094.64 556.44,-1055.36
3D body: height 177.01, standoff 137.8, extent 84,-894.64 556.44,-855.36
3D body: height 177.01, standoff 137.8, extent 84,-694.64 556.44,-655.36
3D body: height 177.01, standoff 137.8, extent 84,-494.64 556.44,-455.36
3D body: height 177.01, standoff 137.8, extent 84,-294.64 556.44,-255.36
3D body: height 177.01, standoff 137.8, extent 84,-94.64 556.44,-55.36
3D body: height 177.01, standoff 137.8, extent 84,105.36 556.44,144.64
3D body: height 177.01, standoff 137.8, extent 84,305.36 556.44,344.64
3D body: height 177.01, standoff 137.8, extent 84,505.36 556.44,544.64
3D body: height 177.01, standoff 137.8, extent 84,705.36 556.44,744.64
3D body: height 177.01, standoff 137.8, extent 84,905.36 556.44,944.64
3D body: height 177.01, standoff 137.8, extent 84,1105.36 556.44,1144.64
3D body: height 177.01, standoff 137.8, extent 84,1305.36 556.44,1344.64
3D body: height 177.01, standoff 137.8, extent 84,1505.36 556.44,1544.64
3D body: height 334.49, standoff 295.28, extent -115.99,1505.36 553.3,1544.65
3D body: height 334.49, standoff 295.28, extent -115.99,1305.36 553.3,1344.65
3D body: height 334.49, standoff 295.28, extent -115.99,1105.36 553.3,1144.65
3D body: height 334.49, standoff 295.28, extent -115.99,905.36 553.3,944.65
3D body: height 334.49, standoff 295.28, extent -115.99,705.36 553.3,744.65
3D body: height 334.49, standoff 295.28, extent -115.99,505.36 553.3,544.65
3D body: height 334.49, standoff 295.28, extent -115.99,305.36 553.3,344.65
3D body: height 334.49, standoff 295.28, extent -115.99,105.36 553.3,144.65
3D body: height 334.49, standoff 295.28, extent -115.99,-94.64 553.3,-55.35
3D body: height 334.49, standoff 295.28, extent -115.99,-294.64 553.3,-255.35
3D body: height 334.49, standoff 295.28, extent -115.99,-494.64 553.3,-455.35
3D body: height 334.49, standoff 295.28, extent -115.99,-694.64 553.3,-655.35
3D body: height 334.49, standoff 295.28, extent -115.99,-894.64 553.3,-855.35
3D body: height 334.49, standoff 295.28, extent -115.99,-1094.64 553.3,-1055.35
3D body: height 334.49, standoff 295.28, extent -115.99,-1294.64 553.3,-1255.35
3D body: height 334.49, standoff 295.28, extent -116,-1494.64 553.3,-1455.35

## P2_Footprint [mil]
pads (17):
  round 150 hole 100: 0(188,-1698) 0(188,1802)
  rect 150x150 hole 60: 4Z(-12,1302)
  round 150 hole 60: 6D(-212,1102) 8Z(-12,902) 10D(-212,702) 12Z(-12,502) 14D(-212,302) 16Z(-12,102) 18D(-212,-98) 20Z(-12,-298) 22D(-212,-498) 24Z(-12,-698) 26D(-212,-898) 28Z(-12,-1098) 30D(-212,-1298) 32Z(-12,-1498)
Top Overlay:
  lines w10: 88,-1599.57 -312,-1599.57 -312,1702 88,1702 ; 288,-1598 288,1702 ; 88,1702 388,1702 388,1802 ; 88,1702 88,1902 388,1902 388,1802 ; 388,-1698 388,-1798 88,-1798 88,-1598 388,-1598 388,-1698 ; 388,-1698 588,-1698 588,1802 388,1802
3D body: height 393.7, standoff 7.87, extent -310.03,-1599.57 290.36,-1564.14
3D body: height 393.7, standoff 7.87, extent -310.03,1664.2 290.36,1699.64
3D body: height 393.7, standoff 7.87, extent -310.03,-1367.29 290.36,-1239.34
3D body: height 393.7, standoff 7.87, extent -312,-963.75 288.39,-835.8
3D body: height 393.7, standoff 7.87, extent -310.03,-560.2 290.36,-432.25
3D body: height 393.7, standoff 7.87, extent -310.03,-166.5 290.36,-38.55
3D body: height 393.7, standoff 7.87, extent -310.03,237.04 290.36,364.99
3D body: height 393.7, standoff 7.87, extent -310.03,640.58 290.36,768.54
3D body: height 393.7, standoff 7.87, extent -312,1044.13 288.39,1172.08
3D body: height 393.7, standoff 7.87, extent 173.83,-1623.87 213.2,1731.45
3D body: height 393.7, standoff 7.87, extent 257.49,1760.98 589.18,1800.35
3D body: height 393.7, standoff 7.87, extent 257.49,-1698.67 587.21,-1659.3
3D body: height 39.37, standoff 7.87, extent 173.83,-1698.67 587.21,1800.35
3D body: height 433.07, standoff 393.7, extent -310.03,-1698.67 587.21,1800.35
3D body: height 393.7, standoff 7.87, extent 213.2,-1659.3 258.47,-1610.09
3D body: height 393.7, standoff 7.87, extent 213.2,1716.68 262.41,1760.98
3D body: height 137.8, standoff -39.37, extent -31.68,-1517.67 7.65,-1478.3
3D body: height 137.8, standoff -39.37, extent -31.68,-1117.67 7.65,-1078.3
3D body: height 137.8, standoff -39.37, extent -31.68,-717.67 7.65,-678.3
3D body: height 137.8, standoff -39.37, extent -31.68,-317.67 7.65,-278.3
3D body: height 137.8, standoff -39.37, extent -31.68,82.33 7.65,121.7
3D body: height 137.8, standoff -39.37, extent -31.68,482.33 7.65,521.7
3D body: height 137.8, standoff -39.37, extent -31.68,882.33 7.65,921.7
3D body: height 334.65, standoff -39.37, extent -231.66,-1317.52 -192.37,-1278.3
3D body: height 334.65, standoff -39.37, extent -231.66,-917.52 -192.37,-878.3
3D body: height 334.65, standoff -39.37, extent -231.66,-517.52 -192.37,-478.3
3D body: height 334.65, standoff -39.37, extent -231.66,-117.52 -192.37,-78.3
3D body: height 334.65, standoff -39.37, extent -231.66,282.48 -192.37,321.7
3D body: height 334.65, standoff -39.37, extent -231.66,682.48 -192.37,721.7
3D body: height 334.65, standoff -39.37, extent -231.66,1082.48 -192.37,1121.7
3D body: height 137.8, standoff -39.37, extent -31.68,1282.33 7.65,1321.7
3D body: height 157.48, standoff 118.11, extent -12,-1552.13 562.02,-1443.87
3D body: height 157.48, standoff 118.11, extent -12,-1152.13 562.02,-1043.87
3D body: height 157.48, standoff 118.11, extent -12,-752.13 562.02,-643.87
3D body: height 157.48, standoff 118.11, extent -12,-352.13 562.02,-243.87
3D body: height 157.48, standoff 118.11, extent -12,47.87 562.02,156.13
3D body: height 157.48, standoff 118.11, extent -12,447.87 562.02,556.13
3D body: height 157.48, standoff 118.11, extent -12,847.87 562.02,956.13
3D body: height 157.48, standoff 118.11, extent -12,1247.87 562.02,1356.13
3D body: height 354.33, standoff 314.96, extent -212,-1346.03 562.02,-1237.76
3D body: height 354.33, standoff 314.96, extent -212,-946.03 562.02,-837.76
3D body: height 354.33, standoff 314.96, extent -212,-546.03 562.02,-437.76
3D body: height 354.33, standoff 314.96, extent -212,-146.03 562.02,-37.76
3D body: height 354.33, standoff 314.96, extent -212,253.97 562.02,362.24
3D body: height 354.33, standoff 314.96, extent -212,653.97 562.02,762.24
3D body: height 354.33, standoff 314.96, extent -212,1053.97 562.02,1162.24

## P2_Footprint - combinado [mil]
pads (33):
  round 150 hole 100: 0(188,-1698) 0(188,1802)
  round 62 hole 30: 2A(90.89,1493.5) 2B(-9.11,1493.5) 2C(-109.11,1493.5) 4A(90.89,1293.5) 4B(-9.11,1293.5) 4C(-109.11,1293.5) 6A(90.89,1093.5) 6B(-9.11,1093.5) 6C(-109.11,1093.5) 8A(90.89,893.5) 8B(-9.11,893.5) 8C(-109.11,893.5) 10A(90.89,693.5) 10B(-9.11,693.5) 10C(-109.11,693.5) 12A(90.89,493.5) 12B(-9.11,493.5) 12C(-109.11,493.5) 14A(90.89,293.5) 14B(-9.11,293.5) 14C(-109.11,293.5) 16A(90.89,93.5) 16B(-9.11,93.5) 16C(-109.11,93.5)
  round 150 hole 60: 20Z(-12,-298) 22D(-212,-498) 24Z(-12,-698) 26D(-212,-898) 28Z(-12,-1098) 30D(-212,-1298) 32Z(-12,-1498)
Top Overlay:
  lines w10: 88,-1599.57 -312,-1599.57 -312,1702 88,1702 ; 288,-1598 288,1702 ; 88,1702 88,1902 388,1902 388,1802 ; 88,1702 388,1702 388,1802 ; 388,-1698 388,-1598 88,-1598 88,-1798 388,-1798 388,-1698 ; 388,-1698 588,-1698 588,1802 388,1802
3D body: height 393.7, standoff 7.87, extent 213.2,1716.68 262.41,1760.98
3D body: height 393.7, standoff 7.87, extent 213.2,-1659.3 258.47,-1610.09
3D body: height 433.07, standoff 393.7, extent -310.03,-1698.67 587.21,1800.35
3D body: height 39.37, standoff 7.87, extent 173.83,-1698.67 587.21,1800.35
3D body: height 393.7, standoff 7.87, extent 257.49,-1698.67 587.21,-1659.3
3D body: height 393.7, standoff 7.87, extent 257.49,1760.98 589.18,1800.35
3D body: height 393.7, standoff 7.87, extent 173.83,-1623.87 213.2,1731.45
3D body: height 393.7, standoff 7.87, extent -310.03,-560.2 290.36,-432.25
3D body: height 393.7, standoff 7.87, extent -312,-963.75 288.39,-835.8
3D body: height 393.7, standoff 7.87, extent -310.03,-1367.29 290.36,-1239.34
3D body: height 393.7, standoff 7.87, extent -310.03,1664.2 290.36,1699.64
3D body: height 393.7, standoff 7.87, extent -310.03,-1599.57 290.36,-1564.14
3D body: height 334.49, standoff 295.28, extent -109.1,73.87 560.19,113.16
3D body: height 334.49, standoff 295.28, extent -109.1,273.87 560.19,313.16
3D body: height 334.49, standoff 295.28, extent -109.1,473.87 560.19,513.16
3D body: height 334.49, standoff 295.28, extent -109.1,673.87 560.19,713.16
3D body: height 334.49, standoff 295.28, extent -109.1,873.87 560.19,913.16
3D body: height 334.49, standoff 295.28, extent -109.1,1073.87 560.19,1113.16
3D body: height 334.49, standoff 295.28, extent -109.1,1273.87 560.19,1313.16
3D body: height 334.49, standoff 295.28, extent -109.1,1473.87 560.19,1513.16
3D body: height 177.01, standoff 137.8, extent 90.89,1473.86 563.33,1513.15
3D body: height 177.01, standoff 137.8, extent 90.89,1273.86 563.33,1313.15
3D body: height 177.01, standoff 137.8, extent 90.89,1073.86 563.33,1113.15
3D body: height 177.01, standoff 137.8, extent 90.89,873.86 563.33,913.15
3D body: height 177.01, standoff 137.8, extent 90.89,673.86 563.33,713.15
3D body: height 177.01, standoff 137.8, extent 90.89,473.86 563.33,513.15
3D body: height 177.01, standoff 137.8, extent 90.89,273.86 563.33,313.15
3D body: height 177.01, standoff 137.8, extent 90.89,73.86 563.33,113.15
3D body: height 177.17, standoff -39.37, extent 71.37,73.87 110.59,113.16
3D body: height 177.17, standoff -39.37, extent 71.37,273.87 110.58,313.16
3D body: height 177.17, standoff -39.37, extent 71.37,473.87 110.59,513.16
3D body: height 177.17, standoff -39.37, extent 71.37,673.87 110.58,713.16
3D body: height 177.17, standoff -39.37, extent 71.37,873.87 110.58,913.16
3D body: height 177.17, standoff -39.37, extent 71.37,1073.87 110.59,1113.16
3D body: height 177.17, standoff -39.37, extent 71.37,1273.87 110.58,1313.16
3D body: height 177.17, standoff -39.37, extent 71.37,1473.87 110.58,1513.16
3D body: height 334.65, standoff -39.37, extent -128.63,1473.87 -89.41,1513.16
3D body: height 334.65, standoff -39.37, extent -128.62,1273.88 -89.41,1313.17
3D body: height 334.65, standoff -39.37, extent -128.62,1073.88 -89.41,1113.17
3D body: height 334.65, standoff -39.37, extent -128.62,873.88 -89.41,913.17
3D body: height 334.65, standoff -39.37, extent -128.62,673.88 -89.41,713.17
3D body: height 334.65, standoff -39.37, extent -128.62,473.88 -89.41,513.17
3D body: height 334.65, standoff -39.37, extent -128.62,273.88 -89.41,313.17
3D body: height 334.65, standoff -39.37, extent -128.62,73.88 -89.41,113.17
3D body: height 354.33, standoff 314.96, extent -212,-546.03 562.02,-437.76
3D body: height 354.33, standoff 314.96, extent -212,-946.03 562.02,-837.76
3D body: height 354.33, standoff 314.96, extent -212,-1346.03 562.02,-1237.76
3D body: height 157.48, standoff 118.11, extent -12,-352.13 562.02,-243.87
3D body: height 157.48, standoff 118.11, extent -12,-752.13 562.02,-643.87
3D body: height 157.48, standoff 118.11, extent -12,-1152.13 562.02,-1043.87
3D body: height 157.48, standoff 118.11, extent -12,-1552.13 562.02,-1443.87
3D body: height 334.65, standoff -39.37, extent -231.66,-517.52 -192.37,-478.3
3D body: height 334.65, standoff -39.37, extent -231.66,-917.52 -192.37,-878.3
3D body: height 334.65, standoff -39.37, extent -231.66,-1317.52 -192.37,-1278.3
3D body: height 137.8, standoff -39.37, extent -31.68,-317.67 7.65,-278.3
3D body: height 137.8, standoff -39.37, extent -31.68,-717.67 7.65,-678.3
3D body: height 137.8, standoff -39.37, extent -31.68,-1117.67 7.65,-1078.3
3D body: height 137.8, standoff -39.37, extent -31.68,-1517.67 7.65,-1478.3

## PCB LM79XX [mil]
pads (3):
  round 60 hole 30: 0(-100,0) 1(0,0) 2(100,0)
Top Overlay:
  rectangle: -225,65 225,115
  lines w10: -200,-65 200,-65 200,65 0,65 -200,65 -200,-65
3D body: height 759.84, standoff 507.87, extent -195.61,52.04 199,103.18
3D body: height 507.87, standoff 157.48, extent -197.6,-62 200,105.17